# EAGLE library part RPI-CM5 (library ICs)
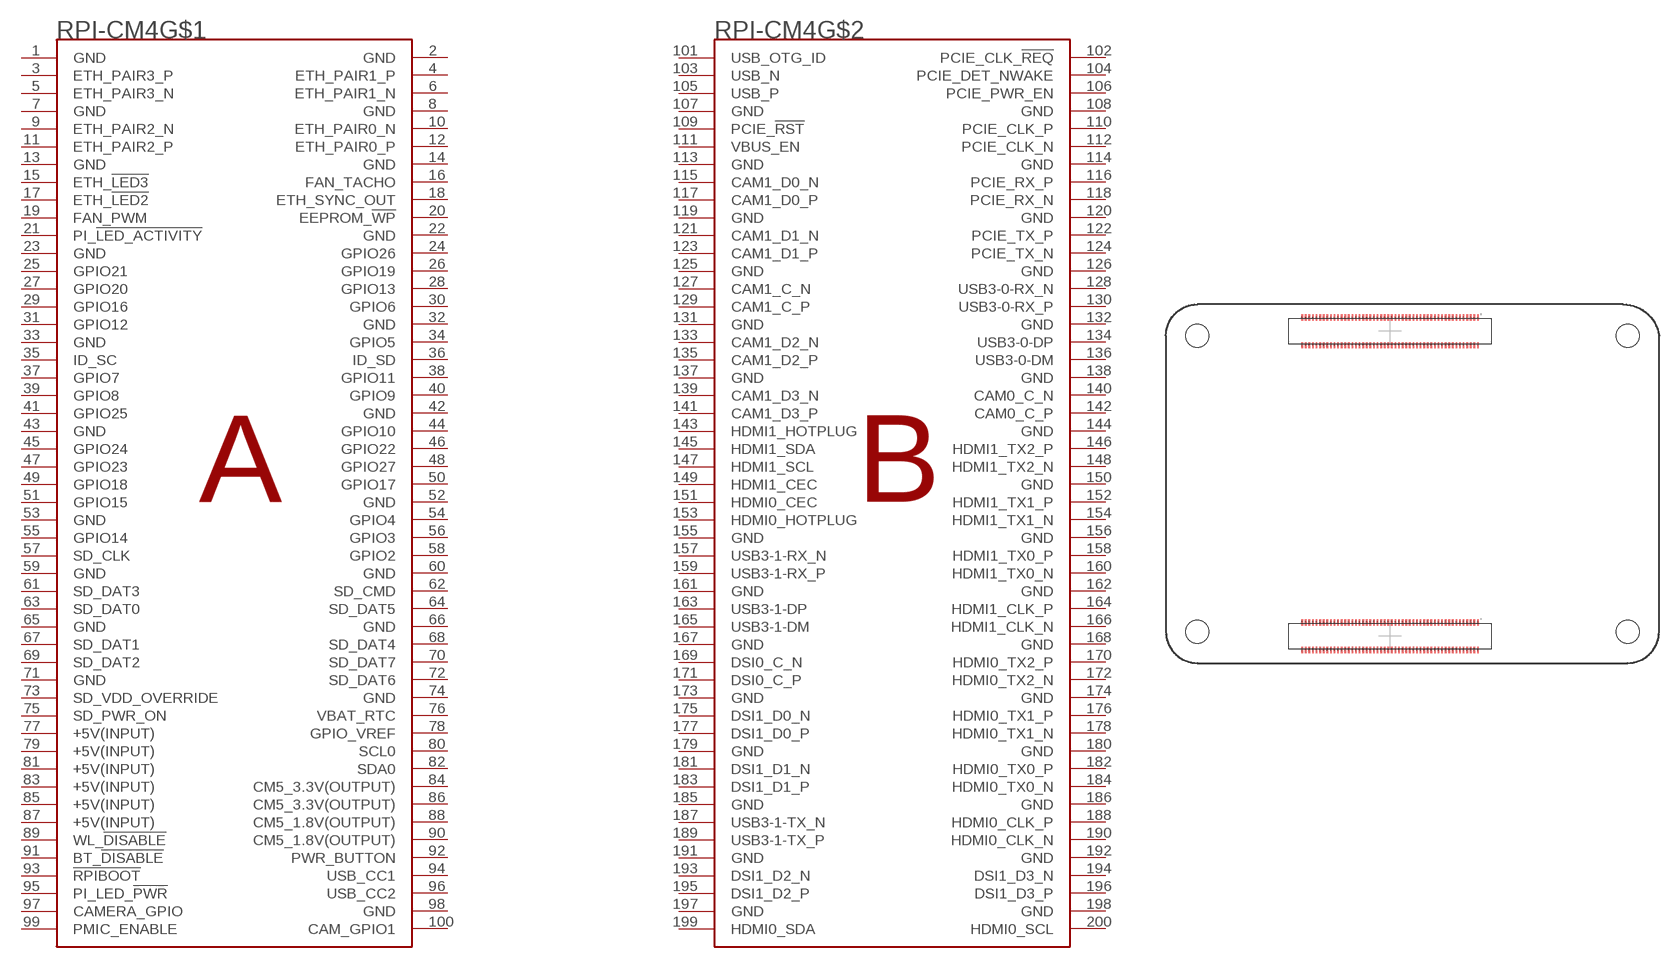
[diagram p1: symbol with the pads of RPI-CM5; footprint RPI-CM5]

Designator prefix RPI-CM4; gates G$1=RPI-CM5-A G$2=RPI-CM5-B

## RPI-CM5  [RPI-CM5]
1  G$1:GND  pas
2  G$1:GND  pas
3  G$1:ETH_PAIR3_P  pas
4  G$1:ETH_PAIR1_P  pas
5  G$1:ETH_PAIR3_N  pas
6  G$1:ETH_PAIR1_N  pas
7  G$1:GND  pas
8  G$1:GND  pas
9  G$1:ETH_PAIR2_N  pas
10  G$1:ETH_PAIR0_N  pas
11  G$1:ETH_PAIR2_P  pas
12  G$1:ETH_PAIR0_P  pas
13  G$1:GND  pas
14  G$1:GND  pas
15  G$1:ETH_!LED3  pas
16  G$1:FAN_TACHO  pas
17  G$1:ETH_!LED2  pas
18  G$1:ETH_SYNC_OUT  pas
19  G$1:FAN_PWM  pas
20  G$1:EEPROM_!WP  pas
21  G$1:PI_!LED_ACTIVITY  pas
22  G$1:GND  pas
23  G$1:GND  pas
24  G$1:GPIO26  pas
25  G$1:GPIO21  pas
26  G$1:GPIO19  pas
27  G$1:GPIO20  pas
28  G$1:GPIO13  pas
29  G$1:GPIO16  pas
30  G$1:GPIO6  pas
31  G$1:GPIO12  pas
32  G$1:GND  pas
33  G$1:GND  pas
34  G$1:GPIO5  pas
35  G$1:ID_SC  pas
36  G$1:ID_SD  pas
37  G$1:GPIO7  pas
38  G$1:GPIO11  pas
39  G$1:GPIO8  pas
40  G$1:GPIO9  pas
41  G$1:GPIO25  pas
42  G$1:GND  pas
43  G$1:GND  pas
44  G$1:GPIO10  pas
45  G$1:GPIO24  pas
46  G$1:GPIO22  pas
47  G$1:GPIO23  pas
48  G$1:GPIO27  pas
49  G$1:GPIO18  pas
50  G$1:GPIO17  pas
51  G$1:GPIO15  pas
52  G$1:GND  pas
53  G$1:GND  pas
54  G$1:GPIO4  pas
55  G$1:GPIO14  pas
56  G$1:GPIO3  pas
57  G$1:SD_CLK  pas
58  G$1:GPIO2  pas
59  G$1:GND  pas
60  G$1:GND  pas
61  G$1:SD_DAT3  pas
62  G$1:SD_CMD  pas
63  G$1:SD_DAT0  pas
64  G$1:SD_DAT5  pas
65  G$1:GND  pas
66  G$1:GND  pas
67  G$1:SD_DAT1  pas
68  G$1:SD_DAT4  pas
69  G$1:SD_DAT2  pas
70  G$1:SD_DAT7  pas
71  G$1:GND  pas
72  G$1:SD_DAT6  pas
73  G$1:SD_VDD_OVERRIDE  pas
74  G$1:GND  pas
75  G$1:SD_PWR_ON  pas
76  G$1:VBAT_RTC  pas
77  G$1:+5V(INPUT)  pas
78  G$1:GPIO_VREF  pas
79  G$1:+5V(INPUT)  pas
80  G$1:SCL0  pas
81  G$1:+5V(INPUT)  pas
82  G$1:SDA0  pas
83  G$1:+5V(INPUT)  pas
84  G$1:CM5_3.3V(OUTPUT)  pas
85  G$1:+5V(INPUT)  pas
86  G$1:CM5_3.3V(OUTPUT)  pas
87  G$1:+5V(INPUT)  pas
88  G$1:CM5_1.8V(OUTPUT)  pas
89  G$1:WL_!DISABLE  pas
90  G$1:CM5_1.8V(OUTPUT)  pas
91  G$1:BT_!DISABLE  pas
92  G$1:PWR_BUTTON  pas
93  G$1:!RPIBOOT  pas
94  G$1:USB_CC1  pas
95  G$1:PI_LED_!PWR  pas
96  G$1:USB_CC2  pas
97  G$1:CAMERA_GPIO  pas
98  G$1:GND  pas
99  G$1:PMIC_ENABLE  pas
100  G$1:CAM_GPIO1  pas
101  G$2:USB_OTG_ID  pas
102  G$2:PCIE_CLK_!REQ  pas
103  G$2:USB_N  pas
104  G$2:PCIE_DET_NWAKE  pas
105  G$2:USB_P  pas
106  G$2:PCIE_PWR_EN  pas
107  G$2:GND  pas
108  G$2:GND  pas
109  G$2:PCIE_!RST  pas
110  G$2:PCIE_CLK_P  pas
111  G$2:VBUS_EN  pas
112  G$2:PCIE_CLK_N  pas
113  G$2:GND  pas
114  G$2:GND  pas
115  G$2:CAM1_D0_N  pas
116  G$2:PCIE_RX_P  pas
117  G$2:CAM1_D0_P  pas
118  G$2:PCIE_RX_N  pas
119  G$2:GND  pas
120  G$2:GND  pas
121  G$2:CAM1_D1_N  pas
122  G$2:PCIE_TX_P  pas
123  G$2:CAM1_D1_P  pas
124  G$2:PCIE_TX_N  pas
125  G$2:GND  pas
126  G$2:GND  pas
127  G$2:CAM1_C_N  pas
128  G$2:USB3-0-RX_N  pas
129  G$2:CAM1_C_P  pas
130  G$2:USB3-0-RX_P  pas
131  G$2:GND  pas
132  G$2:GND  pas
133  G$2:CAM1_D2_N  pas
134  G$2:USB3-0-DP  pas
135  G$2:CAM1_D2_P  pas
136  G$2:USB3-0-DM  pas
137  G$2:GND  pas
138  G$2:GND  pas
139  G$2:CAM1_D3_N  pas
140  G$2:CAM0_C_N  pas
141  G$2:CAM1_D3_P  pas
142  G$2:CAM0_C_P  pas
143  G$2:HDMI1_HOTPLUG  pas
144  G$2:GND  pas
145  G$2:HDMI1_SDA  pas
146  G$2:HDMI1_TX2_P  pas
147  G$2:HDMI1_SCL  pas
148  G$2:HDMI1_TX2_N  pas
149  G$2:HDMI1_CEC  pas
150  G$2:GND  pas
151  G$2:HDMI0_CEC  pas
152  G$2:HDMI1_TX1_P  pas
153  G$2:HDMI0_HOTPLUG  pas
154  G$2:HDMI1_TX1_N  pas
155  G$2:GND  pas
156  G$2:GND  pas
157  G$2:USB3-1-RX_N  pas
158  G$2:HDMI1_TX0_P  pas
159  G$2:USB3-1-RX_P  pas
160  G$2:HDMI1_TX0_N  pas
161  G$2:GND  pas
162  G$2:GND  pas
163  G$2:USB3-1-DP  pas
164  G$2:HDMI1_CLK_P  pas
165  G$2:USB3-1-DM  pas
166  G$2:HDMI1_CLK_N  pas
167  G$2:GND  pas
168  G$2:GND  pas
169  G$2:DSI0_C_N  pas
170  G$2:HDMI0_TX2_P  pas
171  G$2:DSI0_C_P  pas
172  G$2:HDMI0_TX2_N  pas
173  G$2:GND  pas
174  G$2:GND  pas
175  G$2:DSI1_D0_N  pas
176  G$2:HDMI0_TX1_P  pas
177  G$2:DSI1_D0_P  pas
178  G$2:HDMI0_TX1_N  pas
179  G$2:GND  pas
180  G$2:GND  pas
181  G$2:DSI1_D1_N  pas
182  G$2:HDMI0_TX0_P  pas
183  G$2:DSI1_D1_P  pas
184  G$2:HDMI0_TX0_N  pas
185  G$2:GND  pas
186  G$2:GND  pas
187  G$2:USB3-1-TX_N  pas
188  G$2:HDMI0_CLK_P  pas
189  G$2:USB3-1-TX_P  pas
190  G$2:HDMI0_CLK_N  pas
191  G$2:GND  pas
192  G$2:GND  pas
193  G$2:DSI1_D2_N  pas
194  G$2:DSI1_D3_N  pas
195  G$2:DSI1_D2_P  pas
196  G$2:DSI1_D3_P  pas
197  G$2:GND  pas
198  G$2:GND  pas
199  G$2:HDMI0_SDA  pas
200  G$2:HDMI0_SCL  pas

## Footprint RPI-CM5 (pad centres in mm)
smd 0.2 x 0.7: 1 7.3,18.54; 2 7.3,15.46; 3 6.9,18.54; 4 6.9,15.46; 5 6.5,18.54; 6 6.5,15.46; 7 6.1,18.54; 8 6.1,15.46; 9 5.7,18.54; 10 5.7,15.46; 11 5.3,18.54; 12 5.3,15.46; 13 4.9,18.54; 14 4.9,15.46; 15 4.5,18.54; 16 4.5,15.46; 17 4.1,18.54; 18 4.1,15.46; 19 3.7,18.54; 20 3.7,15.46; 21 3.3,18.54; 22 3.3,15.46; 23 2.9,18.54; 24 2.9,15.46; 25 2.5,18.54; 26 2.5,15.46; 27 2.1,18.54; 28 2.1,15.46; 29 1.7,18.54; 30 1.7,15.46; 31 1.3,18.54; 32 1.3,15.46; 33 0.9,18.54; 34 0.9,15.46; 35 0.5,18.54; 36 0.5,15.46; 37 0.1,18.54; 38 0.1,15.46; 39 -0.3,18.54; 40 -0.3,15.46; 41 -0.7,18.54; 42 -0.7,15.46; 43 -1.1,18.54; 44 -1.1,15.46; 45 -1.5,18.54; 46 -1.5,15.46; 47 -1.9,18.54; 48 -1.9,15.46; 49 -2.3,18.54; 50 -2.3,15.46; 51 -2.7,18.54; 52 -2.7,15.46; 53 -3.1,18.54; 54 -3.1,15.46; 55 -3.5,18.54; 56 -3.5,15.46; 57 -3.9,18.54; 58 -3.9,15.46; 59 -4.3,18.54; 60 -4.3,15.46; 61 -4.7,18.54; 62 -4.7,15.46; 63 -5.1,18.54; 64 -5.1,15.46; 65 -5.5,18.54; 66 -5.5,15.46; 67 -5.9,18.54; 68 -5.9,15.46; 69 -6.3,18.54; 70 -6.3,15.46; 71 -6.7,18.54; 72 -6.7,15.46; 73 -7.1,18.54; 74 -7.1,15.46; 75 -7.5,18.54; 76 -7.5,15.46; 77 -7.9,18.54; 78 -7.9,15.46; 79 -8.3,18.54; 80 -8.3,15.46; 81 -8.7,18.54; 82 -8.7,15.46; 83 -9.1,18.54; 84 -9.1,15.46; 85 -9.5,18.54; 86 -9.5,15.46; 87 -9.9,18.54; 88 -9.9,15.46; 89 -10.3,18.54; 90 -10.3,15.46; 91 -10.7,18.54; 92 -10.7,15.46; 93 -11.1,18.54; 94 -11.1,15.46; 95 -11.5,18.54; 96 -11.5,15.46; 97 -11.9,18.54; 98 -11.9,15.46; 99 -12.3,18.54; 100 -12.3,15.46; 101 7.3,-15.46; 102 7.3,-18.54; 103 6.9,-15.46; 104 6.9,-18.54; 105 6.5,-15.46; 106 6.5,-18.54; 107 6.1,-15.46; 108 6.1,-18.54; 109 5.7,-15.46; 110 5.7,-18.54; 111 5.3,-15.46; 112 5.3,-18.54; 113 4.9,-15.46; 114 4.9,-18.54; 115 4.5,-15.46; 116 4.5,-18.54; 117 4.1,-15.46; 118 4.1,-18.54; 119 3.7,-15.46; 120 3.7,-18.54; 121 3.3,-15.46; 122 3.3,-18.54; 123 2.9,-15.46; 124 2.9,-18.54; 125 2.5,-15.46; 126 2.5,-18.54; 127 2.1,-15.46; 128 2.1,-18.54; 129 1.7,-15.46; 130 1.7,-18.54; 131 1.3,-15.46; 132 1.3,-18.54; 133 0.9,-15.46; 134 0.9,-18.54; 135 0.5,-15.46; 136 0.5,-18.54; 137 0.1,-15.46; 138 0.1,-18.54; 139 -0.3,-15.46; 140 -0.3,-18.54; 141 -0.7,-15.46; 142 -0.7,-18.54; 143 -1.1,-15.46; 144 -1.1,-18.54; 145 -1.5,-15.46; 146 -1.5,-18.54; 147 -1.9,-15.46; 148 -1.9,-18.54; 149 -2.3,-15.46; 150 -2.3,-18.54; 151 -2.7,-15.46; 152 -2.7,-18.54; 153 -3.1,-15.46; 154 -3.1,-18.54; 155 -3.5,-15.46; 156 -3.5,-18.54; 157 -3.9,-15.46; 158 -3.9,-18.54; 159 -4.3,-15.46; 160 -4.3,-18.54; 161 -4.7,-15.46; 162 -4.7,-18.54; 163 -5.1,-15.46; 164 -5.1,-18.54; 165 -5.5,-15.46; 166 -5.5,-18.54; 167 -5.9,-15.46; 168 -5.9,-18.54; 169 -6.3,-15.46; 170 -6.3,-18.54; 171 -6.7,-15.46; 172 -6.7,-18.54; 173 -7.1,-15.46; 174 -7.1,-18.54; 175 -7.5,-15.46; 176 -7.5,-18.54; 177 -7.9,-15.46; 178 -7.9,-18.54; 179 -8.3,-15.46; 180 -8.3,-18.54; 181 -8.7,-15.46; 182 -8.7,-18.54; 183 -9.1,-15.46; 184 -9.1,-18.54; 185 -9.5,-15.46; 186 -9.5,-18.54; 187 -9.9,-15.46; 188 -9.9,-18.54; 189 -10.3,-15.46; 190 -10.3,-18.54; 191 -10.7,-15.46; 192 -10.7,-18.54; 193 -11.1,-15.46; 194 -11.1,-18.54; 195 -11.5,-15.46; 196 -11.5,-18.54; 197 -11.9,-15.46; 198 -11.9,-18.54; 199 -12.3,-15.46; 200 -12.3,-18.54
hole 2.55 at -24,-16.5
hole 2.55 at -24,16.5
hole 2.55 at 24,16.5
hole 2.55 at 24,-16.5